# Altium footprint library BIOSENSE_PCB.PcbLib: 36 footprints (part 1 of 3)
Each footprint in its own frame and in the unit in brackets; x right, y up, seen from the top. Pads: shape width x height; smd on the part's side, far side on the other; paste and mask are expansions set on the pad; w line width, h text height; cw(c..) or ccw(c..) is an arc to the next point about the centre after c.
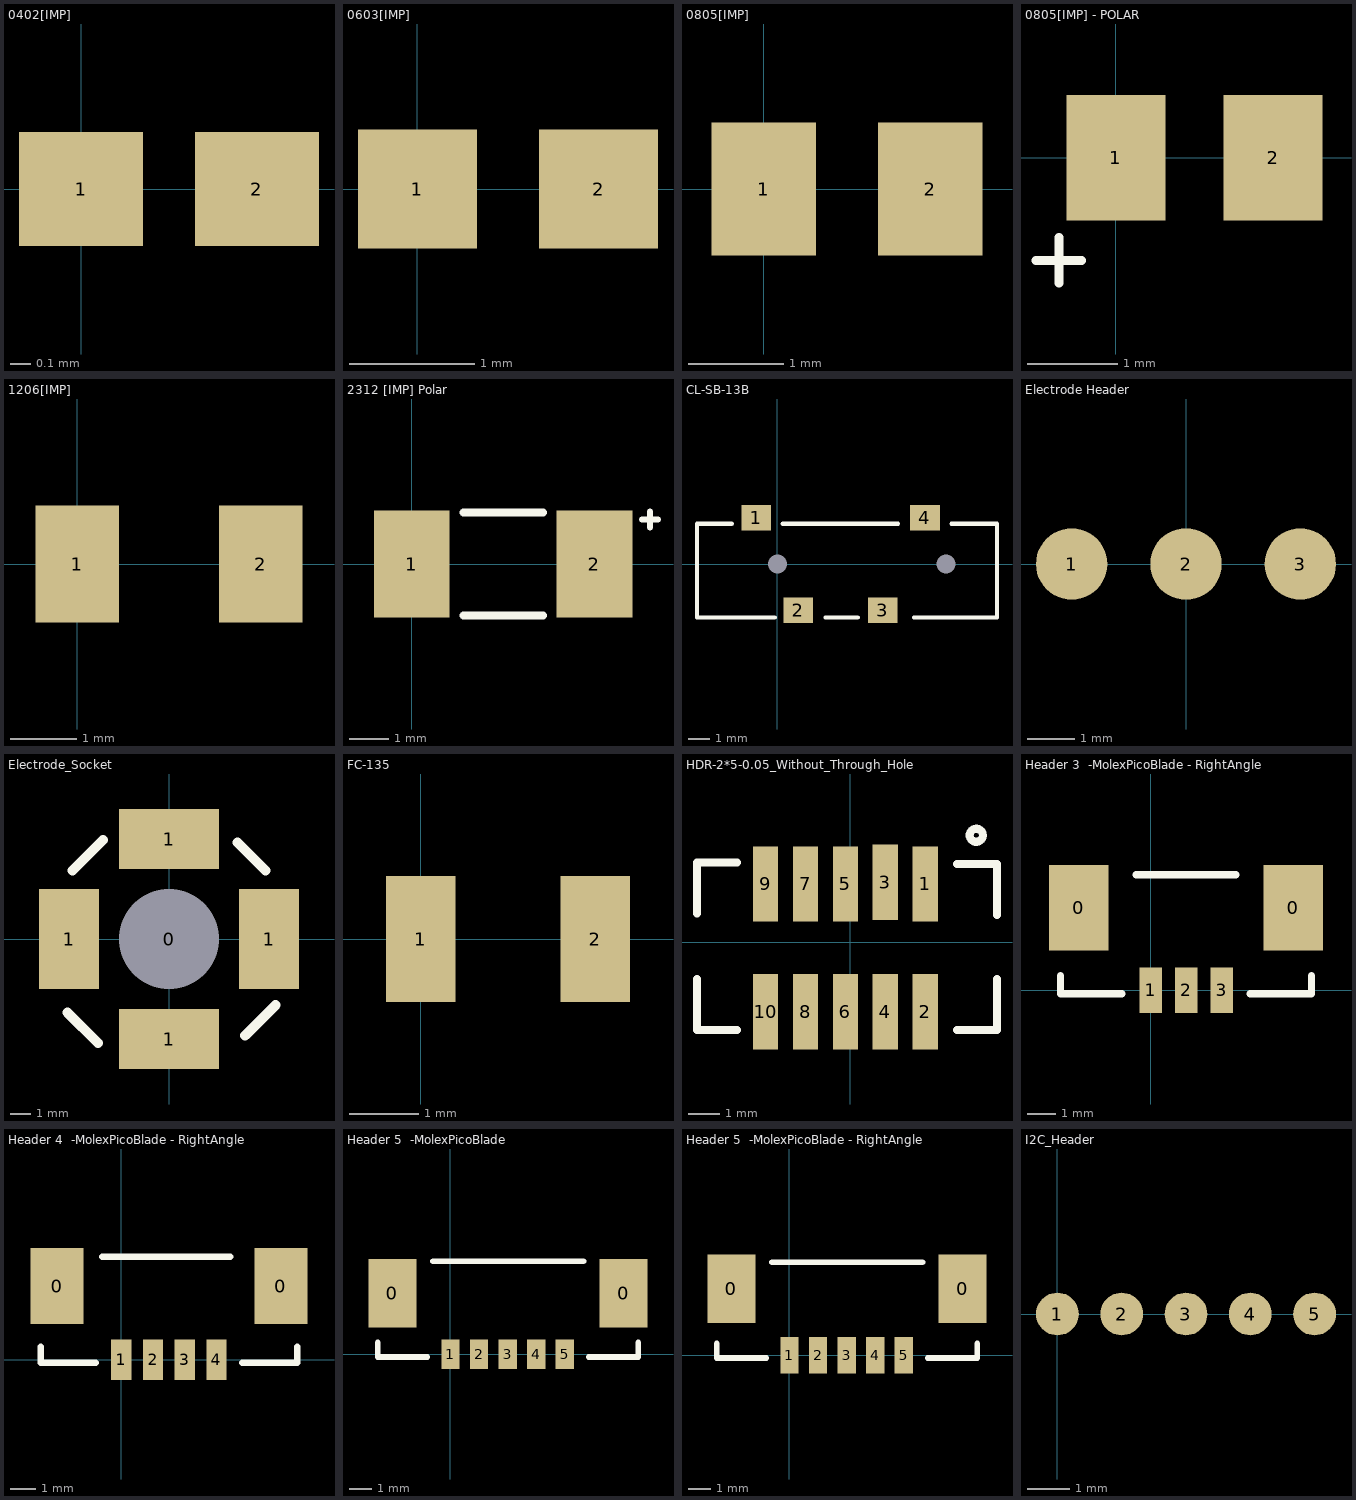
[diagram p0: the footprints below, top view; thin cyan lines are the x and y axes]

## 0402[IMP] [mm]
pads (2):
  rect 0.6x0.55 smd: 1(0,0) 2(0.85,0)

## 0603[IMP] [mm]
pads (2):
  rect 0.95x0.95 smd: 1(0,0) 2(1.45,0)

## 0805[IMP] [mm]
pads (2):
  rect 1.1x1.4 smd: 1(0,0) 2(1.75,0)

## 0805[IMP] - POLAR [mm]
pads (2):
  rect 1.1x1.4 smd: 1(0,0) 2(1.75,0)
Top Overlay:
  lines w0.1: -0.889,-1.143 -0.381,-1.143 ; -0.635,-1.397 -0.635,-0.889

## 1206[IMP] [mm]
pads (2):
  rect 1.25x1.75 smd: 1(0,0) 2(2.75,0)

## 2312 [IMP] Polar [mm]
height 2.6
pads (2):
  rect 1.9x2.7 smd: 1(0,0) 2(4.6,0)
Top Overlay:
  lines w0.15: 5.791,1.118 6.198,1.118 ; 5.994,0.914 5.994,1.321
  lines w0.2: 1.3,-1.3 3.3,-1.3 ; 1.3,1.3 3.3,1.3

## CL-SB-13B [mm] "Three pos switch"
pads (6):
  round 0.1 hole 0.9: 0(0,0) 0(8,0)
  rect 1.4x1.2 smd: 1(-1,2.2) 2(1,-2.2) 3(5,-2.2) 4(7,2.2)
Top Overlay:
  lines w0.2: -2.159,1.905 -3.81,1.905 -3.81,-2.54 -0.127,-2.54 ; 0.254,1.905 5.715,1.905 ; 2.286,-2.54 3.81,-2.54 ; 6.477,-2.54 10.414,-2.54 10.414,1.905 8.255,1.905

## Electrode Header [mm]
pads (3):
  round 1.5 smd: 1(-2.4,0) 2(0,0) 3(2.4,0)

## Electrode_Socket [mm]
pads (5):
  round 2 hole 5 unplated: 0(0,0)
  rect 3x5 smd: 1(-5,0) 1(5,0)
  rect 5x3 smd: 1(0,-5) 1(0,5)
Top Overlay:
  lines w0.5: -5.08,-3.683 -3.556,-5.207 ; -4.826,3.429 -3.302,4.953 ; 3.429,4.826 4.826,3.429 ; 3.81,-4.826 5.334,-3.302

## FC-135 [mm]
pads (2):
  rect 1x1.8 smd: 1(0,0) 2(2.5,0)

## HDR-2*5-0.05_Without_Through_Hole [mm]
pads (10):
  rect 0.8x2.4 smd: 1(2.388,1.854) 2(2.388,-2.21) 3(1.118,1.905) 4(1.118,-2.21) 5(-0.152,1.854) 6(-0.152,-2.21) 7(-1.422,1.854) 8(-1.422,-2.21) 9(-2.692,1.854) 10(-2.692,-2.21)
Top Overlay:
  circle w0.254: c4.013,3.404 r0.209
  lines w0.254: -4.877,-1.168 -4.877,-2.794 -3.607,-2.794 ; -4.877,0.914 -4.877,2.54 -3.607,2.54 ; 3.404,-2.794 4.674,-2.794 4.674,-1.168 ; 3.404,2.489 4.674,2.489 4.674,0.864

## Header 3  -MolexPicoBlade - RightAngle [mm]
height 4.7
pads (5):
  rect 2.1x3 smd: 0(-2.54,2.9) 0(5.029,2.9)
  rect 0.8x1.6 smd: 1(0,0) 2(1.25,0) 3(2.5,0)
Top Overlay:
  lines w0.254: -3.175,0.508 -3.175,-0.127 -1.016,-0.127 ; -0.508,4.064 3,4.064 ; 3.505,-0.127 5.664,-0.127 5.664,0.508

## Header 4  -MolexPicoBlade - RightAngle [mm]
height 4.7
pads (6):
  rect 2.1x3 smd: 0(-2.54,2.9) 0(6.299,2.9)
  rect 0.8x1.6 smd: 1(0,0) 2(1.25,0) 3(2.5,0) 4(3.75,0)
Top Overlay:
  lines w0.254: -3.175,0.508 -3.175,-0.127 -1.016,-0.127 ; -0.762,4.064 4.3,4.064 ; 4.775,-0.127 6.934,-0.127 6.934,0.508

## Header 5  -MolexPicoBlade [mm]
height 4.7
pads (7):
  rect 2.1x3 smd: 0(-2.54,2.667) 0(7.569,2.667)
  rect 0.8x1.3 smd: 1(0,0) 2(1.25,0) 3(2.5,0) 4(3.75,0) 5(5,0)
Top Overlay:
  lines w0.254: -3.175,0.508 -3.175,-0.127 -1.016,-0.127 ; -0.762,4.064 5.817,4.064 ; 6.045,-0.127 8.204,-0.127 8.204,0.508

## Header 5  -MolexPicoBlade - RightAngle [mm]
height 4.7
pads (7):
  rect 2.1x3 smd: 0(-2.54,2.9) 0(7.569,2.9)
  rect 0.8x1.6 smd: 1(0,0) 2(1.25,0) 3(2.5,0) 4(3.75,0) 5(5,0)
Top Overlay:
  lines w0.254: -3.175,0.508 -3.175,-0.127 -1.016,-0.127 ; -0.762,4.064 5.817,4.064 ; 6.045,-0.127 8.204,-0.127 8.204,0.508

## I2C_Header [mm]
pads (5):
  round 1 smd: 1(0,0) 2(1.5,0) 3(3,0) 4(4.5,0) 5(6,0)